# EAGLE library part SMD-RGB-HI-LIGHT(6P-L5.0*W5.0*H1.5MM) (library Seeed-OPL-Diode)
304090049
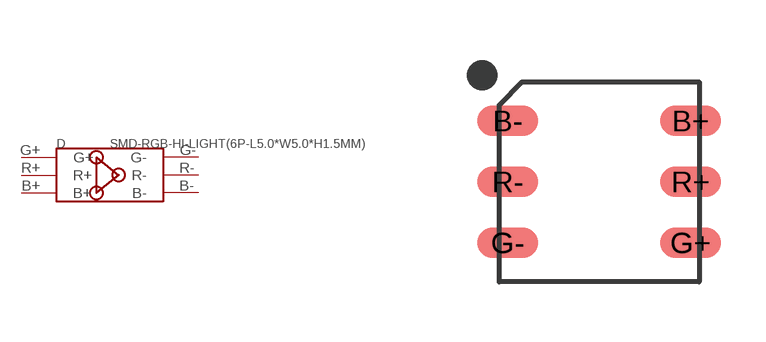
[diagram p0: symbol with the pads of LED6-SMD-5050; footprint LED6-SMD-5050]

Designator prefix D

## SMD-RGB-HI-LIGHT(6P-L5.0W5.0H1.5MM)-5050 (MPN: 5050RGB)  [LED6-SMD-5050]
B+  B+
B-  B-
G+  G+
G-  G-
R+  R+
R-  R-

## Footprint LED6-SMD-5050 (pad centres in mm)
smd 1.524 x 0.762: B+ 2.286,1.524; B- -2.286,1.524; G+ 2.286,-1.524; G- -2.286,-1.524; R+ 2.286,0; R- -2.286,0